# Altium footprint library PcbLib_Connectors.PcbLib: 14 footprints
Each footprint in its own frame and in the unit in brackets; x right, y up, seen from the top. Pads: shape width x height; smd on the part's side, far side on the other; paste and mask are expansions set on the pad; w line width, h text height; cw(c..) or ccw(c..) is an arc to the next point about the centre after c.
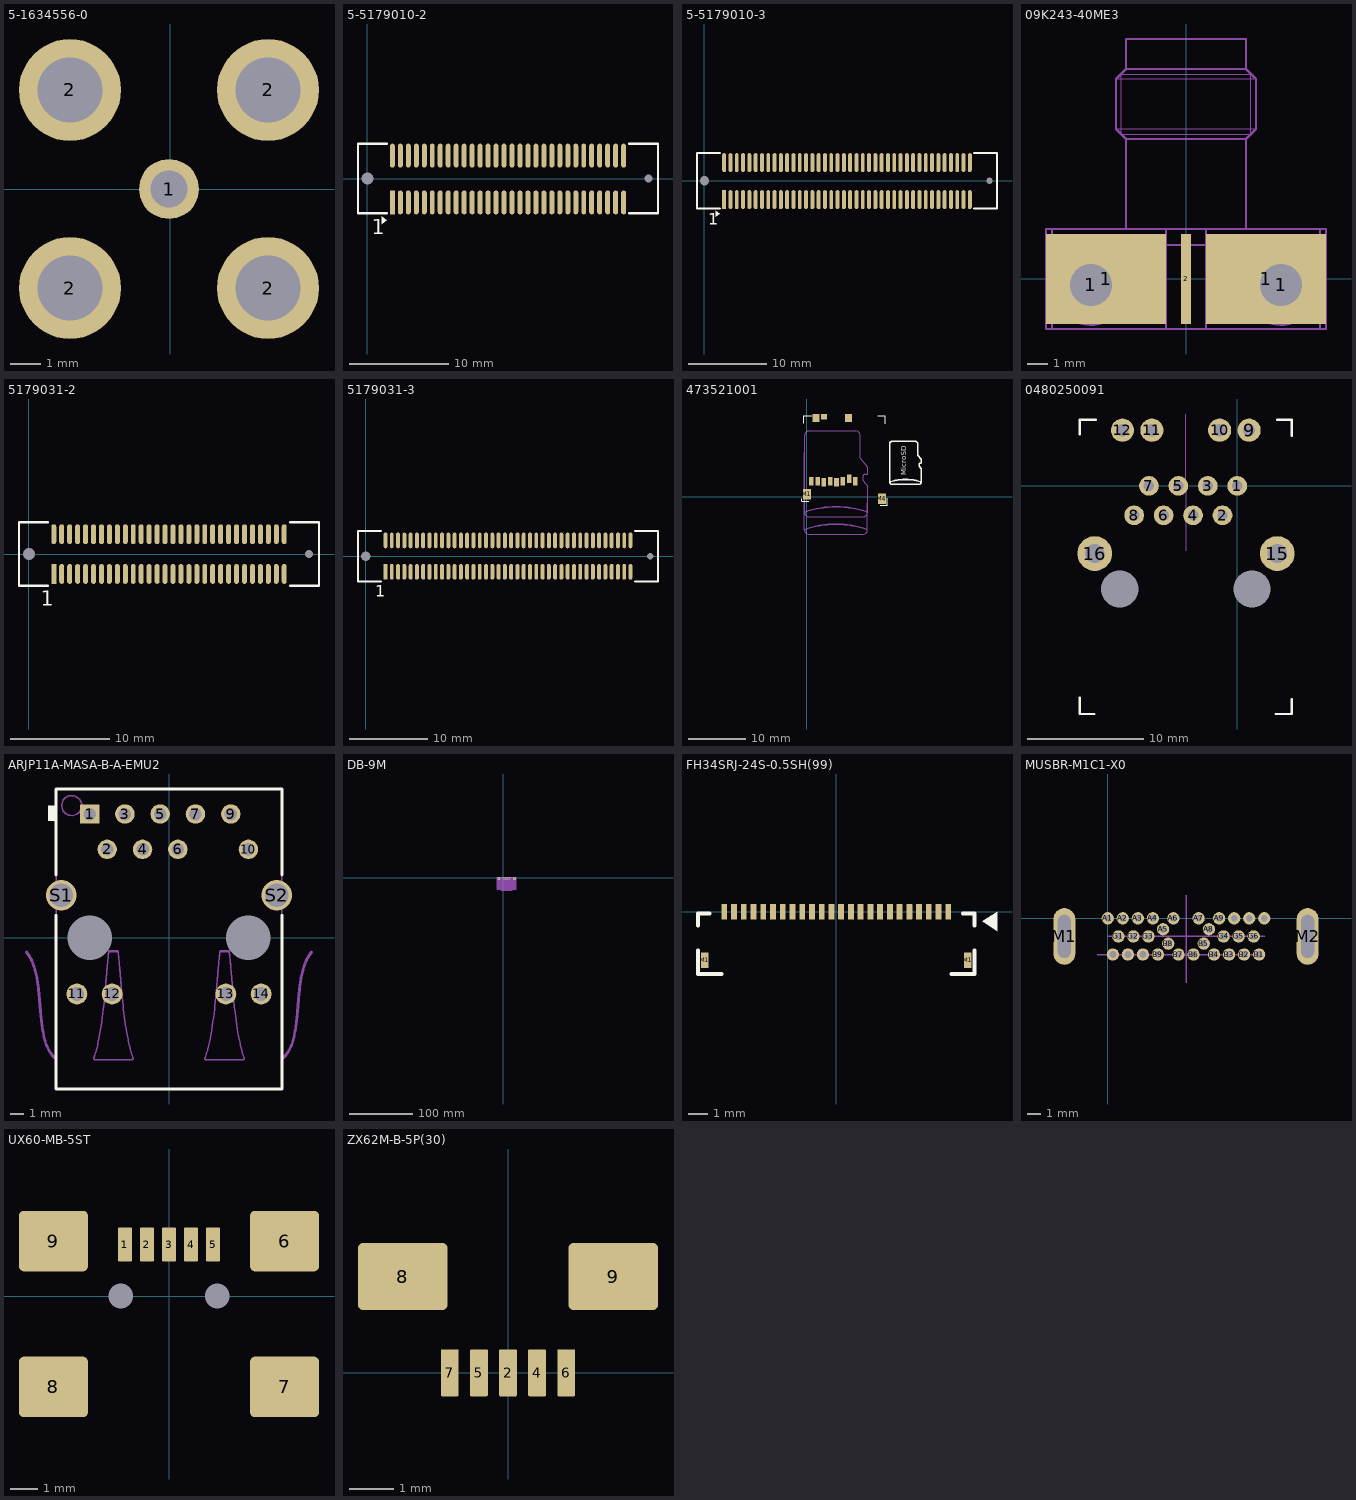
[diagram p0: the footprints below, top view; thin cyan lines are the x and y axes]

## 5-1634556-0 [mm] "BNC Connector"
height 0.6
pads (5):
  round 2 hole 1.24: 1(-0.05,0)
  round 3.4 hole 2.16: 2(-3.35,-3.3) 2(-3.35,3.3) 2(3.25,-3.3) 2(3.25,3.3)
3D body "bnc-r.stp": height 11.67, standoff -4.33, extent -5.15,-7.4 22.68,7.4

## 5-5179010-2 [mm]
pads (62):
  rect 0x0 hole 1.2 unplated: 0(0,0)
  rect 0x0 hole 0.8 unplated: 0(28.2,0)
  rect 0.5x2.4 smd: 1(2.5,-2.4)
  oval 0.5x2.4 smd: 2(2.5,2.3) 3(3.3,-2.4) 4(3.3,2.3) 5(4.1,-2.4) 6(4.1,2.3) 7(4.9,-2.4) 8(4.9,2.3) 9(5.7,-2.4) 10(5.7,2.3) 11(6.5,-2.4) 12(6.5,2.3) 13(7.3,-2.4) 14(7.3,2.3) 15(8.1,-2.4) 16(8.1,2.3) 17(8.9,-2.4) 18(8.9,2.3) 19(9.7,-2.4) 20(9.7,2.3) 21(10.5,-2.4) 22(10.5,2.3) 23(11.3,-2.4) 24(11.3,2.3) 25(12.1,-2.4) 26(12.1,2.3) 27(12.9,-2.4) 28(12.9,2.3) 29(13.7,-2.4) 30(13.7,2.3) 31(14.5,-2.4) 32(14.5,2.3) 33(15.3,-2.4) 34(15.3,2.3) 35(16.1,-2.4) 36(16.1,2.3) 37(16.9,-2.4) 38(16.9,2.3) 39(17.7,-2.4) 40(17.7,2.3) 41(18.5,-2.4) 42(18.5,2.3) 43(19.3,-2.4) 44(19.3,2.3) 45(20.1,-2.4) 46(20.1,2.3) 47(20.9,-2.4) 48(20.9,2.3) 49(21.7,-2.4) 50(21.7,2.3) 51(22.5,-2.4) 52(22.5,2.3) 53(23.3,-2.4) 54(23.3,2.3) 55(24.1,-2.4) 56(24.1,2.3) 57(24.9,-2.4) 58(24.9,2.3) 59(25.7,-2.4) 60(25.7,2.3)
Top Overlay:
  region: 1.95,-4.2 1.45,-3.8 1.45,-4.6
  lines w0.25: 1.95,-3.5 -0.95,-3.5 -0.95,3.5 1.95,3.5 ; 26.25,-3.5 29.15,-3.5 29.15,3.5 26.25,3.5
  text "1" at 0.45,-5.6 h1.5
3D body "c-5-5179010-2-o-3d.stp": height 11.76, standoff -0.49, extent -0.8,-3.4 29,3.4

## 5-5179010-3 [mm]
pads (82):
  rect 0x0 hole 1.2 unplated: 0(0,0)
  rect 0x0 hole 0.8 unplated: 0(36.2,0)
  rect 0.5x2.4 smd: 1(2.5,-2.4)
  oval 0.5x2.4 smd: 2(2.5,2.3) 3(3.3,-2.4) 4(3.3,2.3) 5(4.1,-2.4) 6(4.1,2.3) 7(4.9,-2.4) 8(4.9,2.3) 9(5.7,-2.4) 10(5.7,2.3) 11(6.5,-2.4) 12(6.5,2.3) 13(7.3,-2.4) 14(7.3,2.3) 15(8.1,-2.4) 16(8.1,2.3) 17(8.9,-2.4) 18(8.9,2.3) 19(9.7,-2.4) 20(9.7,2.3) 21(10.5,-2.4) 22(10.5,2.3) 23(11.3,-2.4) 24(11.3,2.3) 25(12.1,-2.4) 26(12.1,2.3) 27(12.9,-2.4) 28(12.9,2.3) 29(13.7,-2.4) 30(13.7,2.3) 31(14.5,-2.4) 32(14.5,2.3) 33(15.3,-2.4) 34(15.3,2.3) 35(16.1,-2.4) 36(16.1,2.3) 37(16.9,-2.4) 38(16.9,2.3) 39(17.7,-2.4) 40(17.7,2.3) 41(18.5,-2.4) 42(18.5,2.3) 43(19.3,-2.4) 44(19.3,2.3) 45(20.1,-2.4) 46(20.1,2.3) 47(20.9,-2.4) 48(20.9,2.3) 49(21.7,-2.4) 50(21.7,2.3) 51(22.5,-2.4) 52(22.5,2.3) 53(23.3,-2.4) 54(23.3,2.3) 55(24.1,-2.4) 56(24.1,2.3) 57(24.9,-2.4) 58(24.9,2.3) 59(25.7,-2.4) 60(25.7,2.3) 61(26.5,-2.4) 62(26.5,2.3) 63(27.3,-2.4) 64(27.3,2.3) 65(28.1,-2.4) 66(28.1,2.3) 67(28.9,-2.4) 68(28.9,2.3) 69(29.7,-2.4) 70(29.7,2.3) 71(30.5,-2.4) 72(30.5,2.3) 73(31.3,-2.4) 74(31.3,2.3) 75(32.1,-2.4) 76(32.1,2.3) 77(32.9,-2.4) 78(32.9,2.3) 79(33.7,-2.4) 80(33.7,2.3)
Top Overlay:
  region: 1.95,-4.2 1.45,-3.8 1.45,-4.6
  lines w0.25: 1.95,-3.5 -0.95,-3.5 -0.95,3.5 1.95,3.5 ; 34.25,-3.5 37.15,-3.5 37.15,3.5 34.25,3.5
  text "1" at 0.45,-5.6 h1.5
3D body "c-5-5179010-3-o-3d.stp": height 11.76, standoff -0.49, extent -0.8,-3.4 37,3.4

## 09K243-40ME3 [mm] "09K243-40ME3"
pads (5):
  round 2.1 hole 2.1: 1(-4.75,-0.3) 1(4.75,-0.3)
  rect 6x4.5 smd: 1(-4,0) 1(4,0)
  rect 0.48x4.5 smd: 2(0,0)
Mechanical 16:
  circle w0.1: c-4.75,-0.3 r2
  circle w0.1: c4.75,-0.3 r2
  region: -0.15,1.7 -0.15,1.1 0.15,1.1 0.15,1.7
  lines w0.05: -3.5,7.5 3.5,7.5 ; -3.5,10 3.5,10 ; -3.25,7.25 3.25,7.25 3.25,10.25 -3.25,10.25 -3.25,7.25
  lines w0.1: -6.7,-0.75 -6.7,-2.5 ; -6.7,0.15 -6.7,2.5 ; 6.7,-0.75 6.7,-2.5 ; 6.7,0.15 6.7,2.5 ; -6.7,-2.5 -7,-2.5 -7,2.5 -6.7,2.5 ; -6.7,-2.5 -1,-2.5 ; -6.7,2.5 -3,2.5 ; -3,2.5 -1,2.5 ; -3,2.5 -3,7 ; -3,7 -3.25,7.25 -3.5,7.5 -3.5,10 -3.25,10.25 -3,10.5 ; -3,7 3,7 ; -3,10.5 -3,12 3,12 3,10.5 ; -3,10.5 3,10.5 ; -1,-2.5 1,-2.5 ; -1,-2.5 -1,1.7 ; -1,1.7 -1,2.5 ; -1,1.7 1,1.7 ; -1,2.5 1,2.5 ; 1,-2.5 6.7,-2.5 ; 1,-2.5 1,1.7 ; 1,1.7 1,2.5 ; 1,2.5 3,2.5 ; 3,2.5 6.7,2.5 ; 3,2.5 3,7 ; 3,7 3.25,7.25 3.5,7.5 3.5,10 3.25,10.25 3,10.5 ; 6.7,-2.5 7,-2.5 7,2.5 ; 6.7,2.5 7,2.5 ; 6.7,2.5 7,2.5
3D body "02K243-40ME3.STEP": height 4.7, standoff -6.15, extent -6.998,-2.5 6.998,12

## 5179031-2 [mm]
pads (62):
  rect 0x0 hole 1.2 unplated: 0(0,0)
  rect 0x0 hole 0.8 unplated: 0(28.2,0)
  rect 0.5x2 smd: 1(2.5,-2)
  oval 0.5x2 smd: 2(2.5,2) 3(3.3,-2) 4(3.3,2) 5(4.1,-2) 6(4.1,2) 7(4.9,-2) 8(4.9,2) 9(5.7,-2) 10(5.7,2) 11(6.5,-2) 12(6.5,2) 13(7.3,-2) 14(7.3,2) 15(8.1,-2) 16(8.1,2) 17(8.9,-2) 18(8.9,2) 19(9.7,-2) 20(9.7,2) 21(10.5,-2) 22(10.5,2) 23(11.3,-2) 24(11.3,2) 25(12.1,-2) 26(12.1,2) 27(12.9,-2) 28(12.9,2) 29(13.7,-2) 30(13.7,2) 31(14.5,-2) 32(14.5,2) 33(15.3,-2) 34(15.3,2) 35(16.1,-2) 36(16.1,2) 37(16.9,-2) 38(16.9,2) 39(17.7,-2) 40(17.7,2) 41(18.5,-2) 42(18.5,2) 43(19.3,-2) 44(19.3,2) 45(20.1,-2) 46(20.1,2) 47(20.9,-2) 48(20.9,2) 49(21.7,-2) 50(21.7,2) 51(22.5,-2) 52(22.5,2) 53(23.3,-2) 54(23.3,2) 55(24.1,-2) 56(24.1,2) 57(24.9,-2) 58(24.9,2) 59(25.7,-2) 60(25.7,2)
Top Overlay:
  lines w0.25: 1.9,-3.2 -1,-3.2 -1,3.2 1.9,3.2 ; 26.3,-3.2 29.2,-3.2 29.2,3.2 26.3,3.2
  text "1" at 1.2,-5.2 h1.5
3D body "c-5179031-02-3-a-3d.stp": height 7.61, standoff -0.99, extent -0.8,-3 29,3

## 5179031-3 [mm]
pads (82):
  rect 0x0 hole 1.2 unplated: 0(0,0)
  rect 0x0 hole 0.8 unplated: 0(36.2,0)
  rect 0.5x2 smd: 1(2.5,-2)
  oval 0.5x2 smd: 2(2.5,2) 3(3.3,-2) 4(3.3,2) 5(4.1,-2) 6(4.1,2) 7(4.9,-2) 8(4.9,2) 9(5.7,-2) 10(5.7,2) 11(6.5,-2) 12(6.5,2) 13(7.3,-2) 14(7.3,2) 15(8.1,-2) 16(8.1,2) 17(8.9,-2) 18(8.9,2) 19(9.7,-2) 20(9.7,2) 21(10.5,-2) 22(10.5,2) 23(11.3,-2) 24(11.3,2) 25(12.1,-2) 26(12.1,2) 27(12.9,-2) 28(12.9,2) 29(13.7,-2) 30(13.7,2) 31(14.5,-2) 32(14.5,2) 33(15.3,-2) 34(15.3,2) 35(16.1,-2) 36(16.1,2) 37(16.9,-2) 38(16.9,2) 39(17.7,-2) 40(17.7,2) 41(18.5,-2) 42(18.5,2) 43(19.3,-2) 44(19.3,2) 45(20.1,-2) 46(20.1,2) 47(20.9,-2) 48(20.9,2) 49(21.7,-2) 50(21.7,2) 51(22.5,-2) 52(22.5,2) 53(23.3,-2) 54(23.3,2) 55(24.1,-2) 56(24.1,2) 57(24.9,-2) 58(24.9,2) 59(25.7,-2) 60(25.7,2) 61(26.5,-2) 62(26.5,2) 63(27.3,-2) 64(27.3,2) 65(28.1,-2) 66(28.1,2) 67(28.9,-2) 68(28.9,2) 69(29.7,-2) 70(29.7,2) 71(30.5,-2) 72(30.5,2) 73(31.3,-2) 74(31.3,2) 75(32.1,-2) 76(32.1,2) 77(32.9,-2) 78(32.9,2) 79(33.7,-2) 80(33.7,2)
Top Overlay:
  lines w0.25: 1.9,-3.2 -1,-3.2 -1,3.2 1.9,3.2 ; 34.3,-3.2 37.2,-3.2 37.2,3.2 34.3,3.2
  text "1" at 1.2,-5.2 h1.5
3D body "c-5179031-03-3-a-3d.stp": height 7.61, standoff -0.99, extent -0.8,-3 37,3

## 473521001 [mm] "SD Card socket"
height 1.5
pads (13):
  rect 0.8x1.5 smd: 1(8.5,2.75) 2(7.4,3.15) 3(6.3,2.75) 4(5.2,2.55) 5(4.1,2.75) 6(3,2.55) 7(1.9,2.75) 8(0.8,2.75)
  rect 1x1 smd: 9(3,14)
  rect 1.4x1.9 smd: M1(0,0.45) M4(13.15,-0.35)
  rect 1.3x1.4 smd: M2(1.6,13.8) M3(7.3,13.8)
Top Overlay:
  lines w0.2: -0.917,-0.379 -0.917,-0.76 0.353,-0.76 ; -0.517,12.91 -0.517,14.18 0.88,14.18 ; 12.43,14.18 13.7,14.18 13.7,12.783 ; 12.83,-1.5 14.1,-1.5 14.1,-0.23
  lines w0.25: 14.536,2.568 ccw(c14.917,2.568) 14.536,2.541 ; 14.536,2.568 cw(c17.298,-5.251) 20.06,2.568 ; 14.536,2.568 14.536,2.595 ; 14.536,2.595 cw(c17.298,-5.25) 20.06,2.595 ; 14.536,2.595 14.536,9.319 cw(c14.917,9.319) 14.917,9.7 19.031,9.7 cw(c19.031,9.319) 19.412,9.319 19.412,7.292 20.03,6.566 cw(c19.933,6.483) 20.06,6.483 20.06,5.895 19.806,5.895 ccw(c19.806,5.768) 19.679,5.768 19.679,5.324 20.06,4.879 20.06,2.595 ; 14.536,2.541 cw(c17.298,-5.25) 20.059,2.541 ; 14.536,2.541 ccw(c14.917,2.568) 14.917,2.187 19.679,2.187 ccw(c19.679,2.568) 20.059,2.541 ; 20.059,2.541 ccw(c19.679,2.568) 20.06,2.568 ; 20.06,2.568 20.06,2.595
  text "MicroSD" at 17.8,3.8 h1.5
Mechanical 1:
  lines w0.1: -0.429,7.713 -0.429,-5.736 ; 10.62,-1.167 10.62,-5.736 ; -0.429,-5.79 cw(c5.096,-21.426) 10.62,-5.79 ; -0.429,-5.79 ccw(c0.333,-5.79) -0.427,-5.843 ; -0.429,-5.79 -0.429,-5.736 ; -0.429,-5.736 cw(c5.096,-21.426) 10.62,-5.736 ; -0.427,-5.843 ccw(c0.333,-5.79) 0.333,-6.552 9.858,-6.552 ccw(c9.858,-5.79) 10.618,-5.843 ; -0.427,-5.843 cw(c5.096,-21.426) 10.618,-5.843 ; -0.404,-2.74 ccw(c0.358,-2.74) -0.402,-2.793 ; -0.404,-2.74 cw(c5.121,-18.376) 10.645,-2.74 ; -0.404,-2.74 -0.404,-2.686 ; -0.404,-2.686 cw(c5.121,-18.376) 10.645,-2.686 ; -0.404,-2.686 -0.404,10.763 cw(c0.358,10.763) 0.358,11.525 8.588,11.525 cw(c8.588,10.763) 9.35,10.763 9.35,6.709 10.585,5.256 cw(c10.391,5.092) 10.645,5.092 10.645,3.915 10.137,3.915 ccw(c10.137,3.661) 9.883,3.661 9.883,2.772 10.645,1.883 10.645,-2.686 ; -0.402,-2.793 cw(c5.121,-18.376) 10.643,-2.793 ; -0.402,-2.793 ccw(c0.358,-2.74) 0.358,-3.502 9.883,-3.502 ccw(c9.883,-2.74) 10.643,-2.793 ; 10.618,-5.843 ccw(c9.858,-5.79) 10.62,-5.79 ; 10.62,-5.79 10.62,-5.736 ; 10.643,-2.793 ccw(c9.883,-2.74) 10.645,-2.74 ; 10.645,-2.74 10.645,-2.686
3D body "473521001.STEP": height 1.88, standoff 0, extent -0.517,-1.147 13.583,14.053

## 0480250091 [mm] "Ethernet RJ-45 Socket"
height 0.6
pads (16):
  round 1.7 hole 0.9: 1(0,0) 2(-1.27,-2.54) 3(-2.54,0) 4(-3.81,-2.54) 5(-5.08,0) 6(-6.35,-2.54) 7(-7.62,0) 8(-8.89,-2.54)
  round 2 hole 1.05: 9(1.02,4.8) 10(-1.52,4.8) 11(-7.36,4.8) 12(-9.9,4.8)
  round 0 hole 3.2 unplated: 13(1.29,-8.89) 14(-10.14,-8.89)
  round 3 hole 1.65 unplated: 15(3.45,-5.84) 16(-12.29,-5.84)
Top Overlay:
  lines w0.2: -13.589,-18.288 -13.589,-19.685 -12.319,-19.685 ; -13.589,4.445 -13.589,5.715 -12.192,5.715 ; 3.302,-19.685 4.699,-19.685 4.699,-18.415 ; 3.429,5.715 4.699,5.715 4.699,4.318
Mechanical 3:
  lines w0.1: -4.44,-5.6 -4.44,0 -4.44,6.2
3D body "480250091.STEP": height 14.35, standoff -3.8, extent -13.608,-19.685 4.718,5.715

## ARJP11A-MASA-B-A-EMU2 [mm] "RJ-45 with integrated magnetics, 14-Leads, TH"
height 13.84
pads (17):
  rect 1.4x1.4 hole 0.9: 1(-5.715,8.89)
  round 1.4 hole 0.9: 2(-4.445,6.35) 3(-3.175,8.89) 4(-1.905,6.35) 5(-0.635,8.89) 6(0.635,6.35) 7(1.905,8.89) 9(4.445,8.89) 10(5.715,6.35)
  round 1.5 hole 1: 11(-6.63,-4.06) 12(-4.09,-4.06) 13(4.09,-4.06) 14(6.63,-4.06)
  round 0 hole 3.2: MH1(-5.715,0) MH2(5.715,0)
  round 2.2 hole 1.7: S1(-7.75,3.05) S2(7.75,3.05)
Top Overlay:
  rectangle: -8.7,8.4 -8.13,9.5
  lines w0.2: -8.13,1.6 -8.13,-10.9 8.13,-10.9 8.13,1.6 ; -8.13,4.5 -8.13,10.69 8.13,10.69 8.13,4.5
Mechanical 5:
  drawing of 1059 lines, arcs and shapes, not listed
  text ".Designator" at -1.524,1.492 h1.02
3D body "ARJP11A.stp": height 16.04, standoff -3.3, extent -10.326,-10.9 10.326,10.69

## DB-9M [mm]
height 0.6
pads (11):
  round 2 hole 1: 1(11.08,0.04) 2(8.31,0.04) 3(5.54,0.04) 4(2.77,0.04) 5(0,0) 6(9.695,-2.84) 7(6.925,-2.84) 8(4.155,-2.84) 9(1.385,-2.84)
  round 5 hole 3 mask+0: 10(-6.96,-1.42)
  round 5 hole 3 unplated mask+0: 11(18.04,-1.38)
Mechanical 3:
  drawing of 701 lines, arcs and shapes, not listed
  text ".Designator" at 4,-7.5 h3
Mechanical 4:
  rectangle: -9.642,-18.9 -4.158,-14.1
  rectangle: -3.149,-20.2 14.351,-14.4
  rectangle: 15.358,-18.9 20.842,-14.1
  rectangle: -9.8,-14.1 21,0.3
  region: -3.45,-14.107 -3.393,-14.112 -3.287,-14.156 -3.206,-14.237 -3.162,-14.343 -3.157,-14.4 14.35,-14.407 14.356,-14.348 14.401,-14.24 14.483,-14.157 14.591,-14.113 14.65,-14.107

## FH34SRJ-24S-0.5SH(99) [mm] "CONN FPC/FFC 24POS .5MM"
height 0.6
pads (26):
  rrect15% 0.3x0.8 smd mask+0.05: 1(5.75,0) 2(5.25,0) 3(4.75,0) 4(4.25,0) 5(3.75,0) 6(3.25,0) 7(2.75,0) 8(2.25,0) 9(1.75,0) 10(1.25,0) 11(0.75,0) 12(0.25,0) 13(-0.25,0) 14(-0.75,0) 15(-1.25,0) 16(-1.75,0) 17(-2.25,0) 18(-2.75,0) 19(-3.25,0) 20(-3.75,0) 21(-4.25,0) 22(-4.75,0) 23(-5.25,0) 24(-5.75,0)
  rrect15% 0.4x0.8 smd mask+0.05: M1(-6.75,-2.5) M1(6.75,-2.5)
Top Overlay:
  region: 7.5,-0.5 8.25,0 8.25,-1
  lines w0.2: -7.1,-2 -7.1,-3.2 -5.9,-3.2 ; -7.1,-0.7 -7.1,-0.1 -6.5,-0.1 ; 5.9,-3.2 7.1,-3.2 7.1,-2 ; 6.5,-0.1 7.1,-0.1 7.1,-0.7
3D body "FH34SRJ-24S-0.5SH.stp": height 1, standoff 0, extent -7,-3.1 7,0.7

## MUSBR-M1C1-X0 [mm]
height 0.6
pads (32):
  round 0.9 hole 0.5: A1(0,0) A2(1.1,0) A3(2.2,0) A4(3.3,0) A5(4.05,-0.8) A6(4.8,0) A7(6.65,0) A8(7.4,-0.8) A9(8.15,0) A10(9.25,0) A11(10.35,0) A12(11.45,0) B1(11.075,-2.65) B2(9.975,-2.65) B3(8.875,-2.65) B4(7.775,-2.65) B5(7.025,-1.85) B6(6.275,-2.65) B7(5.175,-2.65) B8(4.425,-1.85) B9(3.675,-2.65) B10(2.575,-2.65) B11(1.475,-2.65) B12(0.375,-2.65) G1(0.775,-1.325) G2(1.875,-1.325) G3(2.975,-1.325) G4(8.475,-1.325) G5(9.575,-1.325) G6(10.675,-1.325)
  oval 1.6x4.15 hole 0.95 slot 3.15 at 90 deg: M1(-3.175,-1.325) M2(14.625,-1.325)
Mechanical 7:
  lines w0.1: -0.775,-2.65 11.5,-2.65 ; 0,-1.325 11.5,-1.325 ; 5.725,-4.725 5.725,1.7
3D body "M-MUSBR-M1C1-M0-REVT3.STEP": height 7.35, standoff -3.3, extent -6,-13.275 17.5,1.675

## UX60-MB-5ST [mm] "MiniUSB Connector"
height 0.6
pads (11):
  rrect15% 0.5x1.25 smd mask+0.08: 1(-1.6,1.875) 2(-0.8,1.875) 3(0,1.875) 4(0.8,1.875) 5(1.6,1.875)
  rrect15% 2.5x2.2 smd mask+0.08: 6(4.2,2) 7(4.2,-3.3) 8(-4.2,-3.3) 9(-4.2,2)
  round 0 hole 0.9 unplated: 14(-1.75,0) 14(1.75,0)
3D body "User Library-UX60-MB-5ST.step": height 4.6, standoff -0.5, extent -4.95,-6.4 4.95,2.6

## ZX62M-B-5P(30) [mm] "MicroUSB Connector"
height 0.6
pads (7):
  rrect15% 0.4x1.05 smd: 2(0,0) 4(0.65,0) 5(-0.65,0) 6(1.3,0) 7(-1.3,0)
  rrect15% 2x1.5 smd: 8(-2.35,2.15) 9(2.35,2.15)